# Altium integrated library PCB_Only_pH.IntLib: 45 symbols
Pins are listed as number, name and electrical type; pins without a type are passive.

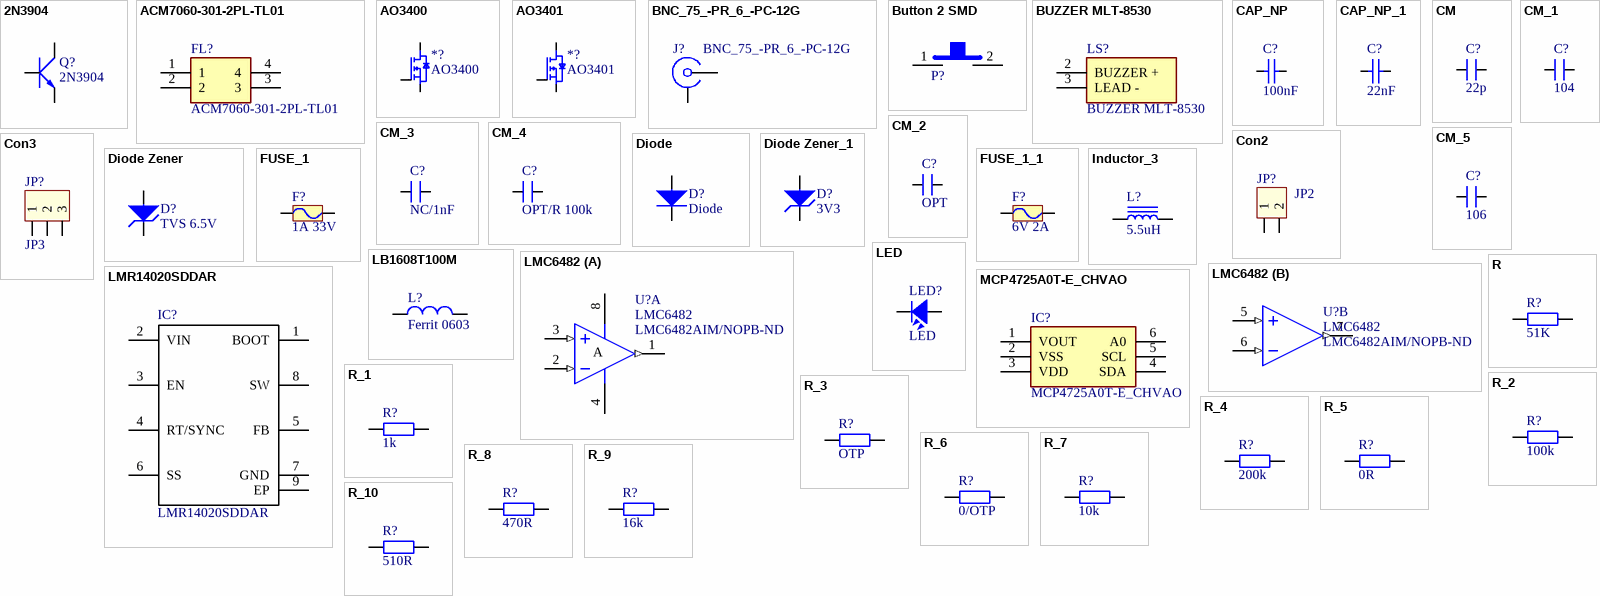
[diagram p0: symbols 2N3904 to R_10]

## 2N3904
designator Q?
NPN 600mW, ECB; Value: C1815
footprint TO92-123 (TO-92)
footprint SOT23-231
footprint TO92-123 - 1 (TO-92)
footprint TO92-123 - 2 (TO-92)
footprint TO92-123 - 3 (TO-92)
pins: 1 E, 2 B, 3 C

## ACM7060-301-2PL-TL01
designator FL?
Filter; Manufacturer_Name: TDK; Datasheet Link: https://componentsearchengine.com/Datasheets/1/ACM7060-301-2PL-TL01.pdf; Height: 3.5mm; Manufacturer_Part_Number: ACM7060-301-2PL-TL01; Mouser Part Number: 810-ACM7063012PLTL01; Mouser Price/Stock: https://www.mouser.co.uk/ProductDetail/TDK/ACM7060-301-2PL-TL01?qs=XtcaLsi12kuLPtyDTh4ZWA%3D%3D; Arrow Part Number: ACM7060-301-2PL-TL01; Arrow Price/Stock: https://www.arrow.com/en/products/acm7060-301-2pl-tl01/tdk?region=nac
footprint ACM70603012PLTL01
pins: 1, 2, 3, 4

## AO3400
designator *?
footprint SOT23-123 (SOT23, 1=bottom-left, 2=top, 3=bottom-right)
footprint SOT23-123 (SOT23, 1=bottom-left, 2=top, 3=bottom-right)
pins: 1, 2, 3

## AO3401
designator *?
footprint SOT23-123 (SOT23, 1=bottom-left, 2=top, 3=bottom-right)
pins: 1, 2, 3

## BNC_75_-PR_6_-PC-12G
designator J?
Connector; Manufacturer_Name: Hirose; Manufacturer_Part_Number: BNC(75)-PR(6)-PC-12G; Datasheet Link: https://www.hirose.com/product/en/download_file/key_name/BNC%2875%29-PR%286%29-PC-12G/category/Drawing%20(2D)/doc_file_id/165956/?file_category_id=6&item_id=03020086000&is_series=; Height: 21.1mm; Mouser Part Number: 798-BNC75-PR6-PC-12G; Mouser Price/Stock: https://www.mouser.co.uk/ProductDetail/Hirose-Connector/BNC75-PR6-PC-12G?qs=vdi0iO8H4N1chcA2yXdD4w%3D%3D
footprint BNC75PR6PC12G
pins: 1, 2, 3, 4, 5

## Button 2 SMD
designator P?
SMD Mini Push Button Switch 2 Pin 3x6x2.7mm; MPN: SMD Mini Push Button 2 SMD; Link: https://ram-e-shop.com/product/press2pin-smd/
footprint SW 2P SMD
pins: 1, 2

## BUZZER MLT-8530
designator LS?
Loudspeaker or Buzzer; Manufacturer_Name: Jiangsu Huaneng Elec; Datasheet Link: https://datasheet.lcsc.com/szlcsc/1811182003_Jiangsu-Huaneng-Elec-MLT-8530_C94599.pdf; Height: 3mm; Manufacturer_Part_Number: MLT-8530
footprint MLT8530
pins: 2 BUZZER +, 3 LEAD -

## CAP_NP
designator C?, comment 100nF
Value: 0.1
footprint CAP_NP_150
footprint CAP_NP_100
footprint CAP_NP_200
footprint CAP_NP_250
footprint C 1206
footprint CAP NP 105/400V
footprint C 0805
footprint CAP_NP_300
footprint CAP_NP_RECTANGE (Tu vuong nguon may tinh)
footprint C 0805 INSTEK (Copy-From-IST-Lib)
footprint CAP NP Size 25x11
footprint CAP-0603-SMDCHIP
footprint SM-0805
footprint SM-0603
pins: 1, 2

## CAP_NP_1
designator C?, comment 22nF
Value: 0.1
footprint CAP_NP_150
footprint CAP_NP_100
footprint CAP_NP_200
footprint CAP_NP_250
footprint C 1206
footprint CAP NP 105/400V
footprint C 0805
footprint CAP_NP_300
footprint CAP_NP_RECTANGE (Tu vuong nguon may tinh)
footprint C 0805 INSTEK (Copy-From-IST-Lib)
footprint CAP NP Size 25x11
footprint CAP-0603-SMDCHIP
footprint SM-0805
footprint SM-0603
pins: 1, 2

## CM
designator C?, comment 22p
Cap SMD; Value: 103
footprint SM-0805 (Compoment SMD 80x50mil)
footprint SM-0402
footprint SM-0603
footprint RES-SMD-1206
footprint SM-2512
footprint SM-3225N (Chip Capacitor, Body 3.2x2.5mm, IPC Medium Density)
footprint SM-6728N (Chip Capacitor, Body 6.7x2.8mm, IPC Medium Density)
footprint SM-7238N (Chip Capacitor, Body 7.2x3.8mm, IPC Medium Density)
footprint SMD-0805-THIN
footprint CAPC-0805 (2012) (Resistor, Chip; 2.00 mm L X 1.25 mm W X 0.70 mm H body)
footprint SM-0805 (Compoment SMD 80x50mil)
pins: 1, 2

## CM_1
designator C?, comment 104
Cap SMD; Value: 103
footprint SM-0805 (Compoment SMD 80x50mil)
footprint SM-0402
footprint SM-0603
footprint RES-SMD-1206
footprint SM-2512
footprint SM-3225N (Chip Capacitor, Body 3.2x2.5mm, IPC Medium Density)
footprint SM-6728N (Chip Capacitor, Body 6.7x2.8mm, IPC Medium Density)
footprint SM-7238N (Chip Capacitor, Body 7.2x3.8mm, IPC Medium Density)
footprint SMD-0805-THIN
footprint CAPC-0805 (2012) (Resistor, Chip; 2.00 mm L X 1.25 mm W X 0.70 mm H body)
footprint SM-0805 (Compoment SMD 80x50mil)
pins: 1, 2

## CM_2
designator C?, comment OPT
Cap SMD; Value: 103
footprint SM-0805 (Compoment SMD 80x50mil)
footprint SM-0402
footprint SM-0603
footprint RES-SMD-1206
footprint SM-2512
footprint SM-3225N (Chip Capacitor, Body 3.2x2.5mm, IPC Medium Density)
footprint SM-6728N (Chip Capacitor, Body 6.7x2.8mm, IPC Medium Density)
footprint SM-7238N (Chip Capacitor, Body 7.2x3.8mm, IPC Medium Density)
footprint SMD-0805-THIN
footprint CAPC-0805 (2012) (Resistor, Chip; 2.00 mm L X 1.25 mm W X 0.70 mm H body)
footprint CAPC-0603 (1608) (Resistor, Chip; 1.60 mm L X 0.80 mm W X 0.50 mm H body)
pins: 1, 2

## CM_3
designator C?, comment NC/1nF
Cap SMD; Value: 103
footprint SM-0805 (Compoment SMD 80x50mil)
footprint SM-0402
footprint SM-0603
footprint RES-SMD-1206
footprint SM-2512
footprint SM-3225N (Chip Capacitor, Body 3.2x2.5mm, IPC Medium Density)
footprint SM-6728N (Chip Capacitor, Body 6.7x2.8mm, IPC Medium Density)
footprint SM-7238N (Chip Capacitor, Body 7.2x3.8mm, IPC Medium Density)
footprint SMD-0805-THIN
footprint CAPC-0805 (2012) (Resistor, Chip; 2.00 mm L X 1.25 mm W X 0.70 mm H body)
footprint CAPC-0603 (1608) (Resistor, Chip; 1.60 mm L X 0.80 mm W X 0.50 mm H body)
pins: 1, 2

## CM_4
designator C?, comment OPT/R 100k
Cap SMD; Value: 103
footprint SM-0805 (Compoment SMD 80x50mil)
footprint SM-0402
footprint SM-0603
footprint RES-SMD-1206
footprint SM-2512
footprint SM-3225N (Chip Capacitor, Body 3.2x2.5mm, IPC Medium Density)
footprint SM-6728N (Chip Capacitor, Body 6.7x2.8mm, IPC Medium Density)
footprint SM-7238N (Chip Capacitor, Body 7.2x3.8mm, IPC Medium Density)
footprint SMD-0805-THIN
footprint CAPC-0805 (2012) (Resistor, Chip; 2.00 mm L X 1.25 mm W X 0.70 mm H body)
footprint CAPC-0603 (1608) (Resistor, Chip; 1.60 mm L X 0.80 mm W X 0.50 mm H body)
pins: 1, 2

## CM_5
designator C?, comment 106
Cap SMD; Value: 103
footprint SM-0805 (Compoment SMD 80x50mil)
footprint SM-0402
footprint SM-0603
footprint RES-SMD-1206
footprint SM-2512
footprint SM-3225N (Chip Capacitor, Body 3.2x2.5mm, IPC Medium Density)
footprint SM-6728N (Chip Capacitor, Body 6.7x2.8mm, IPC Medium Density)
footprint SM-7238N (Chip Capacitor, Body 7.2x3.8mm, IPC Medium Density)
pins: 1, 2

## Con2
designator JP?, comment JP2
Connector 2; Value: Connector 2
footprint CON2
pins: 1, 2

## Con3
designator JP?, comment JP3
Connector 3; Value: Connector 3
footprint CON3 (CON 3)
pins: 1, 2, 3

## Diode
designator D?
footprint D0.5A (Diode muoi, W 80mil, L 300mil)
footprint D1A (Diode 1A, W 100mil, L 350mil)
footprint D1AN (Diode 1A, W 100mil, L 150mil)
footprint D2A (Diode 2A, W 150mil, L 450mil)
footprint D2AN (Diode 2A, W 150mil, L 450mil)
footprint D5A (Diode 5A, W 200mil, L 550mil)
footprint D5AN (Diode 5A, W 200mil, L 250mil)
footprint DO-34
footprint DO-35
footprint DO-35 Vertical
footprint DO-41 (Diode 2A, W 150mil, L 450mil)
footprint DO-201AD (Diode 5A, W 200mil, L 550mil)
footprint DO-201AD-V (Diode 5A, W 200mil, L 550mil)
footprint DO-214AA
footprint DO-214AB
footprint DO-214AC
footprint DZ1A (Diode 1A, W 100mil, L 350mil)
footprint DZ2A (Diode 2A, W 150mil, L 450mil)
footprint SOD123
footprint DIO-SMD-106
footprint DIO-SMD-123
footprint DIO-SMD-B (Magnetic-Core Inductor with Winding Polarity Marking; 2 Leads)
pins: 1, 2

## Diode Zener
designator D?, comment TVS 6.5V
Diode Zener; Part Number: BZV55-C5V1; Pricing: *
footprint DZ1A (Diode 1A, W 100mil, L 350mil)
footprint DZ2A (Diode 2A, W 150mil, L 450mil)
footprint SOD123
footprint DO-214AB (Diode 3A SMD)
footprint DIO-SMD-106
pins: 1, 2

## Diode Zener_1
designator D?, comment 3V3
Diode Zener; Part Number: BZV55-C5V1; Pricing: *
footprint DZ1A (Diode 1A, W 100mil, L 350mil)
footprint DZ2A (Diode 2A, W 150mil, L 450mil)
footprint SOD123
footprint DO-214AC (Diode 2A SMD)
footprint DIO-SMD-106
pins: 1, 2

## FUSE_1
designator F?, comment 1A 33V
footprint FUSE_AUTO
footprint RES-SMD-1206
footprint RES-SMD-1210 (Chip Capacitor, Body 3.2x2.5mm, IPC Medium Density)
footprint RES-SMD-1812 (Chip Capacitor, Body 3.2x2.5mm, IPC Medium Density)
footprint RES-SMD-2010 (Chip Capacitor, Body 3.2x2.5mm, IPC Medium Density)
footprint RES-SMD-2512 (Chip Capacitor, Body 3.2x2.5mm, IPC Medium Density)
pins: 1, 2

## FUSE_1_1
designator F?, comment 6V 2A
footprint FUSE_AUTO
footprint RES-SMD-1206
footprint RES-SMD-1210 (Chip Capacitor, Body 3.2x2.5mm, IPC Medium Density)
footprint RES-SMD-1812 (Chip Capacitor, Body 3.2x2.5mm, IPC Medium Density)
footprint RES-SMD-2010 (Chip Capacitor, Body 3.2x2.5mm, IPC Medium Density)
footprint RES-SMD-2512 (Chip Capacitor, Body 3.2x2.5mm, IPC Medium Density)
pins: 1, 2

## Inductor_3
designator L?, comment 5.5uH
SMT Inductor; Value: 1.5uH
footprint IND 0402/1005 RF WW (Chip Inductor, 2-Leads, Body 1.00x0.50mm, IPC High Density)
footprint FER 0805/2012 (Chip Ferrite, 2-Leads, Body 2.00x1.20mm, IPC Medium Density)
footprint BOURNS SRP5030T (Precision Wire Wound Inductor, 2-Leads, Body 5.70x5.20mm, IPC Medium Density)
footprint BOURNS SRR1280 (Precision Wire Wound Inductor, 2-Leads, Body 12.50x12.50mm, IPC Medium Density)
footprint BOURNS SRR6028 (Precision Wire Wound Inductor, 2-Leads, Body 6.80x6.80mm, IPC Medium Density)
footprint FER 0201/0603 (Chip Inductor, 2-Leads, Body 0.60x0.30mm, IPC Medium Density)
footprint FER 0603/1608 (Chip Ferrite, 2-Leads, Body 1.60x0.80mm, IPC Medium Density)
footprint FER 0402/1005 (Chip Ferrite, 2-Leads, Body 1.02x0.51mm, IPC Medium Density)
footprint TAIYO YUDEN MAMK2520T1R0M (Inductor, 2-Leads, Body 2.50x2.00mm, IPC Medium Density)
footprint TDK SPM3012 (Inductor, 2-Leads, Body 3.00x3.00mm, IPC Medium Density)
footprint TDK SPM3020-LR (Inductor, 2-Leads, Body 3.00x3.00mm, IPC Medium Density)
footprint TDK VLCF4024-2 (Precision Wire Wound Inductor, 2-Leads, Body 4.00x4.00mm, IPC Medium Density)
footprint TDK VLCF4028-2 (Precision Wire Wound Inductor, 2-Leads, Body 4.00x4.00mm, IPC Medium Density)
footprint TDK VLF252012MT (Inductor, 2-Leads, Body 2.00x2.50mm, IPC Medium Density)
footprint TDK VLF252015MT (Inductor, 2-Leads, Body 2.00x2.50mm, IPC Medium Density)
footprint TDK VLF403210MT (Precision Wire Wound Inductor, 2-Leads, Body 3.20x4.00mm, IPC Medium Density)
footprint TDK VLF403212MT (Precision Wire Wound Inductor, 2-Leads, Body 3.20x4.00mm, IPC Medium Density)
footprint TDK VLF504015MT (Wire Wound Inductor, 2-Leads, Body 4.00x5.00mm, IPC Medium Density)
footprint TDK VLF504010MT (Wire Wound Inductor, 2-Leads, Body 4.00x5.00mm, IPC Medium Density)
footprint TDK VLS201612CX (Inductor, 2-Leads, Body 2.00x1.60mm, IPC Medium Density)
footprint TDK VLS201612HBX-1 (Inductor, 2-Leads, Body 2.00x1.60mm, IPC Medium Density)
footprint TDK VLS252010CX (Chip Inductor, 2-Leads, Body 2.50x2.00mm, IPC Medium Density)
footprint TDK VLS252010HBX-1 (Inductor, 2-Leads, Body 2.50x2.00mm, IPC Medium Density)
footprint TDK VLS252012CX (Inductor, 2-Leads, Body 2.50x2.00mm, IPC Medium Density)
footprint TDK VLS252012HBX-1 (Inductor, 2-Leads, Body 2.50x2.00mm, IPC Medium Density)
footprint WURTH 5040 (Wire Wound Inductor, 2-Leads, Body 5.60x5.30mm, IPC Medium Density)
footprint WURTH WE-HCI 7040
pins: 1, 2

## LB1608T100M
designator L?, comment Ferrit 0603
FIXED IND 10UH 60MA 700 MOHM SMD; MPN: LB1608T100M; CompanyID: VT-01060; Solder: SMT; Value: 10uH; Category: FERRITE BEAD; PinCount: 2
footprint IND-0603 (1608) (Resistor, Chip; 1.60 mm L X 0.80 mm W X 0.50 mm H body)
pins: 1, 2

## LED
designator LED?
footprint SM-LED-0805-Blue
footprint SM-LED-0805-Green
footprint SM-LED-0805-Orange
footprint SM-LED-0805-Red
footprint SM-LED-0805-Yellow
footprint SM-LED-1206-Blue (Compoment SMD 120x60mil)
footprint SM-LED-1206-Green
footprint SM-LED-1206-Orange
footprint SM-LED-1206-Red
footprint SM-LED-1206-Yellow
footprint LED-3 (LED 2 PIN, 3ly Only colour)
footprint LED-5-BLUE (LED 2 PIN, 5 ly , Only colour, pin to pin 110mil)
footprint LED-5-Green (LED 2 PIN, 5 ly , Only colour,pin to pin 100mil)
footprint LED-5-WHITE (LED 2 PIN, 5 ly , Only colour, pin to pin 110mil)
footprint LED-5-Yellow (LED 2 PIN, 5 ly , Only colour,pin to pin 100mil)
pins: 1, 2

## LMC6482
designator U?  Supplier Part Number 1: LMC6482AIM/NOPB-ND
LMC6482 CMOS Dual Rail-to-Rail Input and Output Operational Amplifier; MFR: Ti; Solder: SMT; MPN: LMC6482; Value: LMC6482; Category: IC; PinCount: 8; Supplier 1: Digi-Key
footprint SOIC-8
part A pins: 1 OUT (out), 2 IN- (in), 3 IN+ (in), 4 V- (power), 8 V+ (power)
part B pins: 5 IN+ (in), 6 IN- (in), 7 OUT (out)
part A text: A

## LMR14020SDDAR
designator IC?
Integrated Circuit; Manufacturer_Name: Texas Instruments; Datasheet Link: http://www.ti.com/lit/gpn/lmr14020; Height: 1.7mm; Manufacturer_Part_Number: LMR14020SDDAR; Mouser Part Number: 595-LMR14020SDDAR; Mouser Price/Stock: https://www.mouser.co.uk/ProductDetail/Texas-Instruments/LMR14020SDDAR?qs=Q2snjRlG%2FBLpJ6bVOizpDA%3D%3D; Arrow Part Number: LMR14020SDDAR; Arrow Price/Stock: https://www.arrow.com/en/products/lmr14020sddar/texas-instruments
footprint SOIC127P600X170-9N
pins: 1 BOOT, 2 VIN, 3 EN, 4 RT/SYNC, 5 FB, 6 SS, 7 GND, 8 SW, 9 EP

## MCP4725A0T-E_CHVAO
designator IC?
Integrated Circuit; Manufacturer_Name: Microchip; Manufacturer_Part_Number: MCP4725A0T-E/CHVAO; Datasheet Link: http://ww1.microchip.com/downloads/en/devicedoc/22039d.pdf; Height: 1.45mm; Mouser Part Number: 579-MCP4725A0TECHVAO; Mouser Price/Stock: https://www.mouser.co.uk/ProductDetail/Microchip-Technology/MCP4725A0T-E-CHVAO?qs=5aG0NVq1C4ze67bMeWos3Q%3D%3D; Arrow Part Number: MCP4725A0T-E/CHVAO; Arrow Price/Stock: https://www.arrow.com/en/products/mcp4725a0t-echvao/microchip-technology
footprint SOT95P270X145-6N
pins: 1 VOUT, 2 VSS, 3 VDD, 4 SDA, 5 SCL, 6 A0

## R
designator R?, comment 51K
Resistor R1/4W
footprint RES-1/4W
footprint RES-1/4W-SMALL
footprint RES-1/4WD
footprint RES-SMD-0101
footprint RES-SMD-0201
footprint RES-SMD-0402
footprint RES-SMD-0603
footprint RES-SMD-0805
footprint RES-SMD-1206
footprint RES-SMD-1210 (Chip Capacitor, Body 3.2x2.5mm, IPC Medium Density)
footprint RES-SMD-1812 (Chip Capacitor, Body 3.2x2.5mm, IPC Medium Density)
footprint RES-SMD-2010 (Chip Capacitor, Body 3.2x2.5mm, IPC Medium Density)
footprint RES-SMD-2512 (Chip Capacitor, Body 3.2x2.5mm, IPC Medium Density)
footprint RES-1/2W
footprint RES-1/8W
footprint RES-1/8W-SMALL (R 1/8W, 2 pin, 200mil)
footprint RES-1/8W-SMALL-2 (R 1/8W, 2 pin, 200mil)
footprint RES-1/8WD
footprint RES-1W
footprint RES-1W-LONG
footprint RES-1WD
footprint RES-2W (R2W, 2 pin, 700mil)
footprint RES-5W (R5W , 2 pin, 400 x 950mil)
footprint RES-5WD (R5W , 2 pin, 300 x 600 mil)
pins: 1, 2

## R_1
designator R?, comment 1k
Resistor R1/4W
footprint RES-1/4W
footprint RES-1/4W-SMALL
footprint RES-1/4WD
footprint RES-SMD-0101
footprint RES-SMD-0201
footprint RES-SMD-0402
footprint RES-SMD-0603
footprint RES-SMD-0805
footprint RES-SMD-1206
footprint RES-SMD-1210 (Chip Capacitor, Body 3.2x2.5mm, IPC Medium Density)
footprint RES-SMD-1812 (Chip Capacitor, Body 3.2x2.5mm, IPC Medium Density)
footprint RES-SMD-2010 (Chip Capacitor, Body 3.2x2.5mm, IPC Medium Density)
footprint RES-SMD-2512 (Chip Capacitor, Body 3.2x2.5mm, IPC Medium Density)
footprint RES-1/2W
footprint RES-1/8W
footprint RES-1/8W-SMALL (R 1/8W, 2 pin, 200mil)
footprint RES-1/8W-SMALL-2 (R 1/8W, 2 pin, 200mil)
footprint RES-1/8WD
footprint RES-1W
footprint RES-1W-LONG
footprint RES-1WD
footprint RES-2W (R2W, 2 pin, 700mil)
footprint RES-5W (R5W , 2 pin, 400 x 950mil)
footprint RES-5WD (R5W , 2 pin, 300 x 600 mil)
pins: 1, 2

## R_2
designator R?, comment 100k
Resistor R1/4W
footprint RES-1/4W
footprint RES-1/4W-SMALL
footprint RES-1/4WD
footprint RES-SMD-0101
footprint RES-SMD-0201
footprint RES-SMD-0402
footprint RES-SMD-0603
footprint RES-SMD-0805
footprint RES-SMD-1206
footprint RES-SMD-1210 (Chip Capacitor, Body 3.2x2.5mm, IPC Medium Density)
footprint RES-SMD-1812 (Chip Capacitor, Body 3.2x2.5mm, IPC Medium Density)
footprint RES-SMD-2010 (Chip Capacitor, Body 3.2x2.5mm, IPC Medium Density)
footprint RES-SMD-2512 (Chip Capacitor, Body 3.2x2.5mm, IPC Medium Density)
footprint RES-1/2W
footprint RES-1/8W
footprint RES-1/8W-SMALL (R 1/8W, 2 pin, 200mil)
footprint RES-1/8W-SMALL-2 (R 1/8W, 2 pin, 200mil)
footprint RES-1/8WD
footprint RES-1W
footprint RES-1W-LONG
footprint RES-1WD
footprint RES-2W (R2W, 2 pin, 700mil)
footprint RES-5W (R5W , 2 pin, 400 x 950mil)
footprint RES-5WD (R5W , 2 pin, 300 x 600 mil)
pins: 1, 2

## R_3
designator R?, comment OTP
Resistor R1/4W
footprint RES-1/4W
footprint RES-1/4W-SMALL
footprint RES-1/4WD
footprint RES-SMD-0101
footprint RES-SMD-0201
footprint RES-SMD-0402
footprint RES-SMD-0603
footprint RES-SMD-0805
footprint RES-SMD-1206
footprint RES-SMD-1210 (Chip Capacitor, Body 3.2x2.5mm, IPC Medium Density)
footprint RES-SMD-1812 (Chip Capacitor, Body 3.2x2.5mm, IPC Medium Density)
footprint RES-SMD-2010 (Chip Capacitor, Body 3.2x2.5mm, IPC Medium Density)
footprint RES-SMD-2512 (Chip Capacitor, Body 3.2x2.5mm, IPC Medium Density)
footprint RES-1/2W
footprint RES-1/8W
footprint RES-1/8W-SMALL (R 1/8W, 2 pin, 200mil)
footprint RES-1/8W-SMALL-2 (R 1/8W, 2 pin, 200mil)
footprint RES-1/8WD
footprint RES-1W
footprint RES-1W-LONG
footprint RES-1WD
footprint RES-2W (R2W, 2 pin, 700mil)
footprint RES-5W (R5W , 2 pin, 400 x 950mil)
footprint RES-5WD (R5W , 2 pin, 300 x 600 mil)
pins: 1, 2

## R_4
designator R?, comment 200k
Resistor R1/4W
footprint RES-1/4W
footprint RES-1/4W-SMALL
footprint RES-1/4WD
footprint RES-SMD-0101
footprint RES-SMD-0201
footprint RES-SMD-0402
footprint RES-SMD-0603
footprint RES-SMD-0805
footprint RES-SMD-1206
footprint RES-SMD-1210 (Chip Capacitor, Body 3.2x2.5mm, IPC Medium Density)
footprint RES-SMD-1812 (Chip Capacitor, Body 3.2x2.5mm, IPC Medium Density)
footprint RES-SMD-2010 (Chip Capacitor, Body 3.2x2.5mm, IPC Medium Density)
footprint RES-SMD-2512 (Chip Capacitor, Body 3.2x2.5mm, IPC Medium Density)
footprint RES-1/2W
footprint RES-1/8W
footprint RES-1/8W-SMALL (R 1/8W, 2 pin, 200mil)
footprint RES-1/8W-SMALL-2 (R 1/8W, 2 pin, 200mil)
footprint RES-1/8WD
footprint RES-1W
footprint RES-1W-LONG
footprint RES-1WD
footprint RES-2W (R2W, 2 pin, 700mil)
footprint RES-5W (R5W , 2 pin, 400 x 950mil)
footprint RES-5WD (R5W , 2 pin, 300 x 600 mil)
pins: 1, 2

## R_5
designator R?, comment 0R
Resistor R1/4W
footprint RES-1/4W
footprint RES-1/4W-SMALL
footprint RES-1/4WD
footprint RES-SMD-0101
footprint RES-SMD-0201
footprint RES-SMD-0402
footprint RES-SMD-0603
footprint RES-SMD-0805
footprint RES-SMD-1206
footprint RES-SMD-1210 (Chip Capacitor, Body 3.2x2.5mm, IPC Medium Density)
footprint RES-SMD-1812 (Chip Capacitor, Body 3.2x2.5mm, IPC Medium Density)
footprint RES-SMD-2010 (Chip Capacitor, Body 3.2x2.5mm, IPC Medium Density)
footprint RES-SMD-2512 (Chip Capacitor, Body 3.2x2.5mm, IPC Medium Density)
footprint RES-1/2W
footprint RES-1/8W
footprint RES-1/8W-SMALL (R 1/8W, 2 pin, 200mil)
footprint RES-1/8W-SMALL-2 (R 1/8W, 2 pin, 200mil)
footprint RES-1/8WD
footprint RES-1W
footprint RES-1W-LONG
footprint RES-1WD
footprint RES-2W (R2W, 2 pin, 700mil)
footprint RES-5W (R5W , 2 pin, 400 x 950mil)
footprint RES-5WD (R5W , 2 pin, 300 x 600 mil)
pins: 1, 2

## R_6
designator R?, comment 0/OTP
Resistor R1/4W
footprint RES-1/4W
footprint RES-1/4W-SMALL
footprint RES-1/4WD
footprint RES-SMD-0101
footprint RES-SMD-0201
footprint RES-SMD-0402
footprint RES-SMD-0603
footprint RES-SMD-0805
footprint RES-SMD-1206
footprint RES-SMD-1210 (Chip Capacitor, Body 3.2x2.5mm, IPC Medium Density)
footprint RES-SMD-1812 (Chip Capacitor, Body 3.2x2.5mm, IPC Medium Density)
footprint RES-SMD-2010 (Chip Capacitor, Body 3.2x2.5mm, IPC Medium Density)
footprint RES-SMD-2512 (Chip Capacitor, Body 3.2x2.5mm, IPC Medium Density)
footprint RES-1/2W
footprint RES-1/8W
footprint RES-1/8W-SMALL (R 1/8W, 2 pin, 200mil)
footprint RES-1/8W-SMALL-2 (R 1/8W, 2 pin, 200mil)
footprint RES-1/8WD
footprint RES-1W
footprint RES-1W-LONG
footprint RES-1WD
footprint RES-2W (R2W, 2 pin, 700mil)
footprint RES-5W (R5W , 2 pin, 400 x 950mil)
footprint RES-5WD (R5W , 2 pin, 300 x 600 mil)
pins: 1, 2

## R_7
designator R?, comment 10k
Resistor R1/4W
footprint RES-1/4W
footprint RES-1/4W-SMALL
footprint RES-1/4WD
footprint RES-SMD-0101
footprint RES-SMD-0201
footprint RES-SMD-0402
footprint RES-SMD-0603
footprint RES-SMD-0805
footprint RES-SMD-1206
footprint RES-SMD-1210 (Chip Capacitor, Body 3.2x2.5mm, IPC Medium Density)
footprint RES-SMD-1812 (Chip Capacitor, Body 3.2x2.5mm, IPC Medium Density)
footprint RES-SMD-2010 (Chip Capacitor, Body 3.2x2.5mm, IPC Medium Density)
footprint RES-SMD-2512 (Chip Capacitor, Body 3.2x2.5mm, IPC Medium Density)
footprint RES-1/2W
footprint RES-1/8W
footprint RES-1/8W-SMALL (R 1/8W, 2 pin, 200mil)
footprint RES-1/8W-SMALL-2 (R 1/8W, 2 pin, 200mil)
footprint RES-1/8WD
footprint RES-1W
footprint RES-1W-LONG
footprint RES-1WD
footprint RES-2W (R2W, 2 pin, 700mil)
footprint RES-5W (R5W , 2 pin, 400 x 950mil)
footprint RES-5WD (R5W , 2 pin, 300 x 600 mil)
pins: 1, 2

## R_8
designator R?, comment 470R
Resistor R1/4W
footprint RES-1/4W
footprint RES-1/4W-SMALL
footprint RES-1/4WD
footprint RES-SMD-0101
footprint RES-SMD-0201
footprint RES-SMD-0402
footprint RES-SMD-0603
footprint RES-SMD-0805
footprint RES-SMD-1206
footprint RES-SMD-1210 (Chip Capacitor, Body 3.2x2.5mm, IPC Medium Density)
footprint RES-SMD-1812 (Chip Capacitor, Body 3.2x2.5mm, IPC Medium Density)
footprint RES-SMD-2010 (Chip Capacitor, Body 3.2x2.5mm, IPC Medium Density)
footprint RES-SMD-2512 (Chip Capacitor, Body 3.2x2.5mm, IPC Medium Density)
footprint RES-1/2W
footprint RES-1/8W
footprint RES-1/8W-SMALL (R 1/8W, 2 pin, 200mil)
footprint RES-1/8W-SMALL-2 (R 1/8W, 2 pin, 200mil)
footprint RES-1/8WD
footprint RES-1W
footprint RES-1W-LONG
footprint RES-1WD
footprint RES-2W (R2W, 2 pin, 700mil)
footprint RES-5W (R5W , 2 pin, 400 x 950mil)
footprint RES-5WD (R5W , 2 pin, 300 x 600 mil)
pins: 1, 2

## R_9
designator R?, comment 16k
Resistor R1/4W
footprint RES-1/4W
footprint RES-1/4W-SMALL
footprint RES-1/4WD
footprint RES-SMD-0101
footprint RES-SMD-0201
footprint RES-SMD-0402
footprint RES-SMD-0603
footprint RES-SMD-0805
footprint RES-SMD-1206
footprint RES-SMD-1210 (Chip Capacitor, Body 3.2x2.5mm, IPC Medium Density)
footprint RES-SMD-1812 (Chip Capacitor, Body 3.2x2.5mm, IPC Medium Density)
footprint RES-SMD-2010 (Chip Capacitor, Body 3.2x2.5mm, IPC Medium Density)
footprint RES-SMD-2512 (Chip Capacitor, Body 3.2x2.5mm, IPC Medium Density)
footprint RES-1/2W
footprint RES-1/8W
footprint RES-1/8W-SMALL (R 1/8W, 2 pin, 200mil)
footprint RES-1/8W-SMALL-2 (R 1/8W, 2 pin, 200mil)
footprint RES-1/8WD
footprint RES-1W
footprint RES-1W-LONG
footprint RES-1WD
footprint RES-2W (R2W, 2 pin, 700mil)
footprint RES-5W (R5W , 2 pin, 400 x 950mil)
footprint RES-5WD (R5W , 2 pin, 300 x 600 mil)
pins: 1, 2

## R_10
designator R?, comment 510R
Resistor R1/4W
footprint RES-1/4W
footprint RES-1/4W-SMALL
footprint RES-1/4WD
footprint RES-SMD-0101
footprint RES-SMD-0201
footprint RES-SMD-0402
footprint RES-SMD-0603
footprint RES-SMD-0805
footprint RES-SMD-1206
footprint RES-SMD-1210 (Chip Capacitor, Body 3.2x2.5mm, IPC Medium Density)
footprint RES-SMD-1812 (Chip Capacitor, Body 3.2x2.5mm, IPC Medium Density)
footprint RES-SMD-2010 (Chip Capacitor, Body 3.2x2.5mm, IPC Medium Density)
footprint RES-SMD-2512 (Chip Capacitor, Body 3.2x2.5mm, IPC Medium Density)
footprint RES-1/2W
footprint RES-1/8W
footprint RES-1/8W-SMALL (R 1/8W, 2 pin, 200mil)
footprint RES-1/8W-SMALL-2 (R 1/8W, 2 pin, 200mil)
footprint RES-1/8WD
footprint RES-1W
footprint RES-1W-LONG
footprint RES-1WD
footprint RES-2W (R2W, 2 pin, 700mil)
footprint RES-5W (R5W , 2 pin, 400 x 950mil)
footprint RES-5WD (R5W , 2 pin, 300 x 600 mil)
pins: 1, 2

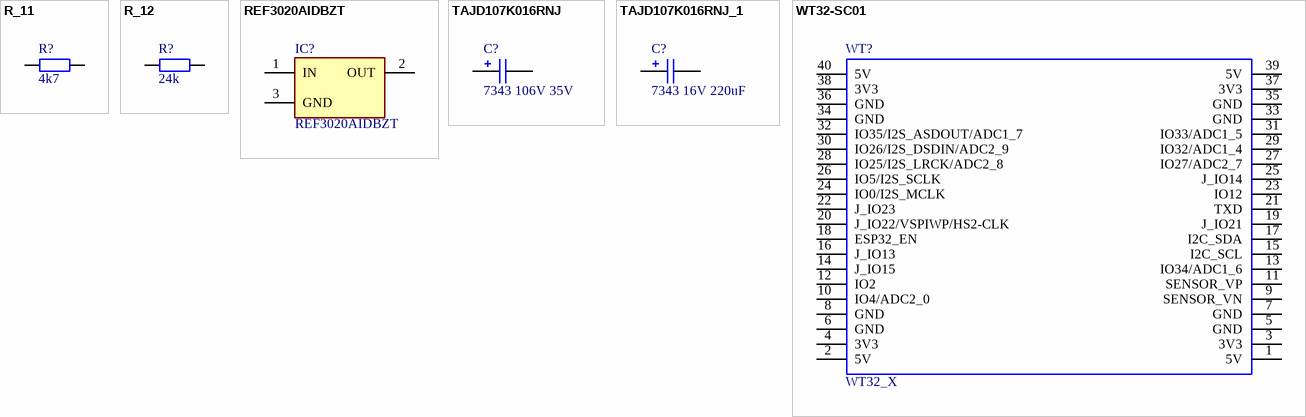
[diagram p1: symbols R_11 to WT32-SC01]

## R_11
designator R?, comment 4k7
Resistor R1/4W
footprint RES-1/4W
footprint RES-1/4W-SMALL
footprint RES-1/4WD
footprint RES-SMD-0101
footprint RES-SMD-0201
footprint RES-SMD-0402
footprint RES-SMD-0603
footprint RES-SMD-0805
footprint RES-SMD-1206
footprint RES-SMD-1210 (Chip Capacitor, Body 3.2x2.5mm, IPC Medium Density)
footprint RES-SMD-1812 (Chip Capacitor, Body 3.2x2.5mm, IPC Medium Density)
footprint RES-SMD-2010 (Chip Capacitor, Body 3.2x2.5mm, IPC Medium Density)
footprint RES-SMD-2512 (Chip Capacitor, Body 3.2x2.5mm, IPC Medium Density)
footprint RES-1/2W
footprint RES-1/8W
footprint RES-1/8W-SMALL (R 1/8W, 2 pin, 200mil)
footprint RES-1/8W-SMALL-2 (R 1/8W, 2 pin, 200mil)
footprint RES-1/8WD
footprint RES-1W
footprint RES-1W-LONG
footprint RES-1WD
footprint RES-2W (R2W, 2 pin, 700mil)
footprint RES-5W (R5W , 2 pin, 400 x 950mil)
footprint RES-5WD (R5W , 2 pin, 300 x 600 mil)
pins: 1, 2

## R_12
designator R?, comment 24k
Resistor R1/4W
footprint RES-1/4W
footprint RES-1/4W-SMALL
footprint RES-1/4WD
footprint RES-SMD-0101
footprint RES-SMD-0201
footprint RES-SMD-0402
footprint RES-SMD-0603
footprint RES-SMD-0805
footprint RES-SMD-1206
footprint RES-SMD-1210 (Chip Capacitor, Body 3.2x2.5mm, IPC Medium Density)
footprint RES-SMD-1812 (Chip Capacitor, Body 3.2x2.5mm, IPC Medium Density)
footprint RES-SMD-2010 (Chip Capacitor, Body 3.2x2.5mm, IPC Medium Density)
footprint RES-SMD-2512 (Chip Capacitor, Body 3.2x2.5mm, IPC Medium Density)
footprint RES-1/2W
footprint RES-1/8W
footprint RES-1/8W-SMALL (R 1/8W, 2 pin, 200mil)
footprint RES-1/8W-SMALL-2 (R 1/8W, 2 pin, 200mil)
footprint RES-1/8WD
footprint RES-1W
footprint RES-1W-LONG
footprint RES-1WD
footprint RES-2W (R2W, 2 pin, 700mil)
footprint RES-5W (R5W , 2 pin, 400 x 950mil)
footprint RES-5WD (R5W , 2 pin, 300 x 600 mil)
pins: 1, 2

## REF3020AIDBZT
designator IC?
Integrated Circuit; Manufacturer_Name: Texas Instruments; Datasheet Link: http://www.ti.com/lit/ds/symlink/ref3020.pdf; Height: 1.12mm; Manufacturer_Part_Number: REF3020AIDBZT; Mouser Part Number: 595-REF3020AIDBZT; Mouser Price/Stock: https://www.mouser.co.uk/ProductDetail/Texas-Instruments/REF3020AIDBZT?qs=sSOk4GDDv7z1DbPVs3eJeA%3D%3D; Arrow Part Number: REF3020AIDBZT; Arrow Price/Stock: https://www.arrow.com/en/products/ref3020aidbzt/texas-instruments
footprint SOT95P237X112-3N
pins: 1 IN, 2 OUT, 3 GND

## TAJD107K016RNJ
designator C?, comment 7343 106V 35V
http://www.linhkienchatluong.vn/tu-tantalium/tu-tantalum-7343-106v-35v-10uf-73x43mm_sp460_ct4760.aspx; MPN: TAJD107K016RNJ; Solder: SMT; CompanyID: VT-00022; Value: 107/16V; Category: CAPACITOR; PinCount: 2
footprint CAP_TANTAL_2917(7343-31) (Chip Resistor, Body 6.0x3.2mm, IPC High Density)
pins: 1, 2

## TAJD107K016RNJ_1
designator C?, comment 7343 16V 220uF
http://linhkienviet.vn/tu-tantalum-16v-220uf-7343; MPN: TAJD107K016RNJ; Solder: SMT; CompanyID: VT-00022; Value: 107/16V; Category: CAPACITOR; PinCount: 2
footprint CAP_TANTAL_2917(7343-31) (Chip Resistor, Body 6.0x3.2mm, IPC High Density)
pins: 1, 2

## WT32-SC01
designator WT?, comment WT32_X
footprint WT32_SC01_Sheild
pins: 1 5V, 2 5V, 3 3V3, 4 3V3, 5 GND, 6 GND, 7 GND, 8 GND, 9 SENSOR_VN, 10 IO4/ADC2_0, 11 SENSOR_VP, 12 IO2, 13 IO34/ADC1_6, 14 J_IO15, 15 I2C_SCL, 16 J_IO13, 17 I2C_SDA, 18 ESP32_EN, 19 J_IO21, 20 J_IO22/VSPIWP/HS2-CLK, 21 TXD, 22 J_IO23, 23 IO12, 24 IO0/I2S_MCLK, 25 J_IO14, 26 IO5/I2S_SCLK, 27 IO27/ADC2_7, 28 IO25/I2S_LRCK/ADC2_8, 29 IO32/ADC1_4, 30 IO26/I2S_DSDIN/ADC2_9, 31 IO33/ADC1_5, 32 IO35/I2S_ASDOUT/ADC1_7, 33 GND, 34 GND, 35 GND, 36 GND, 37 3V3, 38 3V3, 39 5V, 40 5V